# Altium schematic symbol library CP2105-F01-GM.Schlib: 1 symbol
Pins are listed as number, name and electrical type; pins without a type are passive.

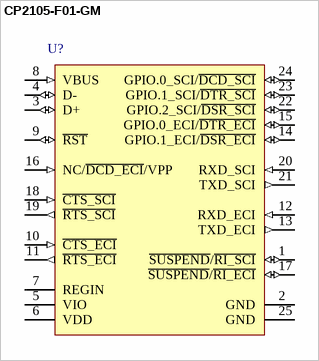
[diagram p0: symbol CP2105-F01-GM]

## CP2105-F01-GM
designator U?
Single-Chip USB to Dual UART Bridge, 5 Dig I/O Pins, Internal Oscillator, 296 Bytes EEPROM, -40 to 85 degC, 24-pin QFN
pins: 1 ~{SUSPEND}/~{RI_SCI} (io), 2 GND (power) "Ground. Must be tied to ground.", 3 D+ (io) "USB D+", 4 D- (io) "USB D-", 5 VIO (power) "I/O Supply Voltage Input.", 6 VDD (power) "Power Supply Voltage Input. Voltage Regulator Output. See Section 10.", 7 REGIN (power) "5 V Regulator Input. This pin is the input to the on-chip voltage regulator.", 8 VBUS (in) "VBUS Sense Input. This pin should be connected to the VBUS signal of a USB network.", 9 ~{RST} (io) "Device Reset. Open-drain output of internal POR or VDD monitor. An external source can initiate a system reset by driving this pin low for the time specified in Table 4.", 10 ~{CTS_ECI} (in) "Clear To Send control input (active low) for the Enhanced Comm Interface.", 11 ~{RTS_ECI} (out) "Ready to Send control output (active low) for the Enhanced Comm Interface.", 12 RXD_ECI (in) "Asynchronous data input (UART Receive) for the Enhanced Comm Interface.", 13 TXD_ECI (out) "Asynchronous data output (UART Transmit) for the Enhanced Comm Interface.", 14 GPIO.1_ECI/~{DSR_ECI} (io), 15 GPIO.0_ECI/~{DTR_ECI} (io), 16 NC/~{DCD_ECI}/VPP (in), 17 ~{SUSPEND}/~{RI_ECI} (io), 18 ~{CTS_SCI} (in) "Clear To Send control input (active low) for the Standard Comm Interface.", 19 ~{RTS_SCI} (out) "Ready to Send control output (active low) for the Standard Comm Interface.", 20 RXD_SCI (in) "Asynchronous data input (UART Receive) for the Standard Comm Interface.", 21 TXD_SCI (out) "Asynchronous data output (UART Transmit) for the Standard Comm Interface.", 22 GPIO.2_SCI/~{DSR_SCI} (io), 23 GPIO.1_SCI/~{DTR_SCI} (io), 24 GPIO.0_SCI/~{DCD_SCI} (io), 25 GND (power)